# Altium schematic symbol library Seeed-OPL-Switch.SCHLIB: 25 symbols
Pins are listed as number, name and electrical type; pins without a type are passive.

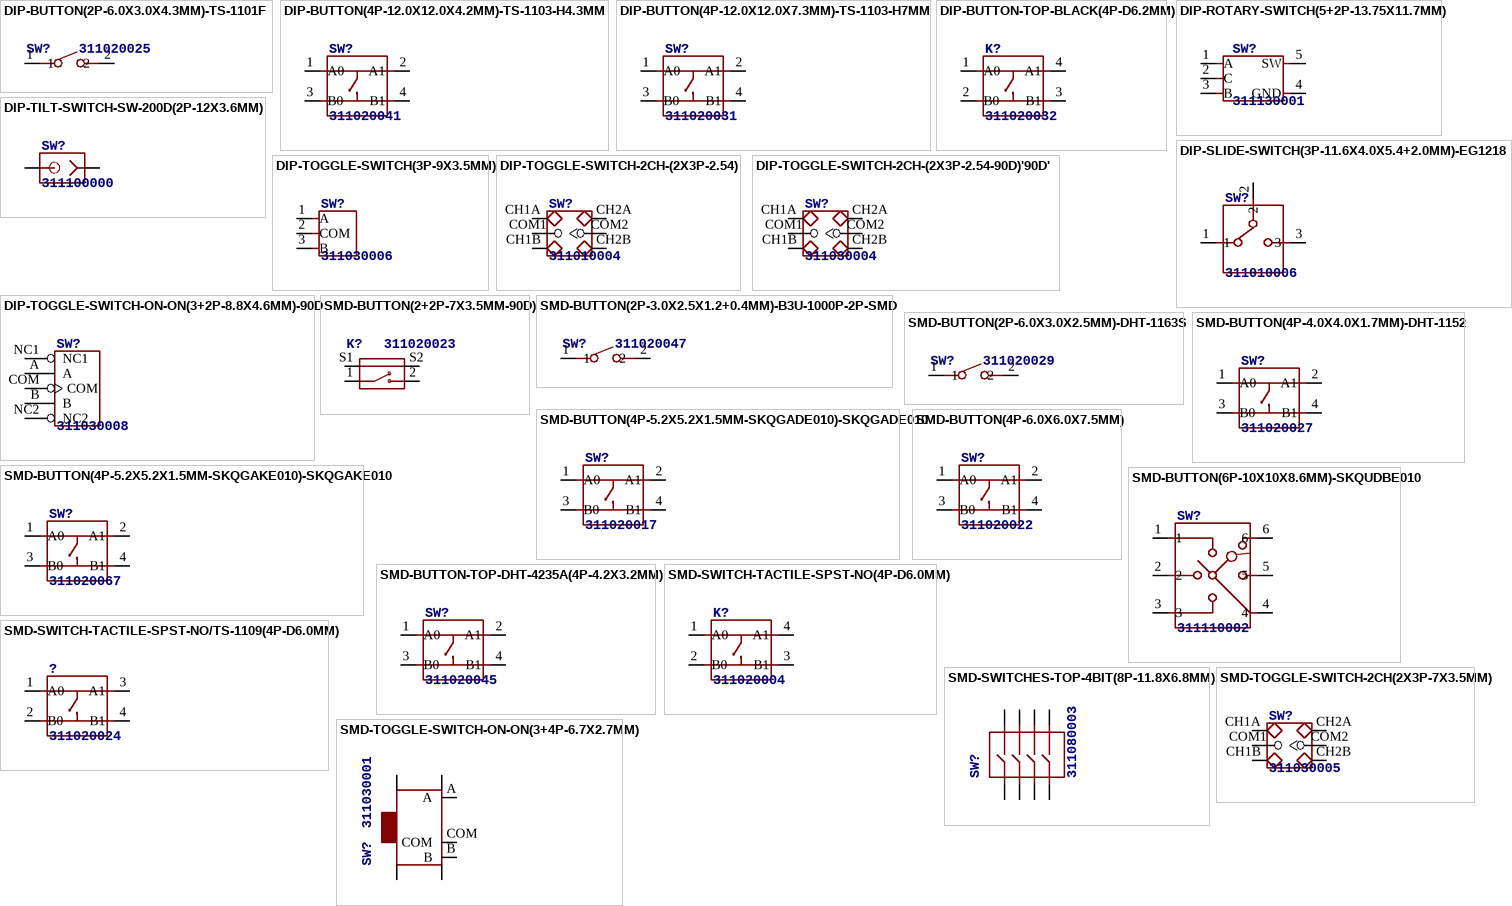
[diagram p0: symbols DIP-BUTTON(2P-6.0X3.0X4.3MM)-TS-1101F to SMD-TOGGLE-SWITCH-ON-ON(3+4P-6.7X2.7MM)]

## DIP-BUTTON(2P-6.0X3.0X4.3MM)-TS-1101F
designator SW?, comment 311020025
footprint SW2-5.0-6.0X3.0X4.3MM
pins: 1, 2

## DIP-BUTTON(4P-12.0X12.0X4.2MM)-TS-1103-H4.3MM
designator SW?, comment 311020041
footprint SW4-12.5-12X12X7.3MM
pins: 1 A0, 2 A1, 3 B0, 4 B1

## DIP-BUTTON(4P-12.0X12.0X7.3MM)-TS-1103-H7MM
designator SW?, comment 311020031
footprint SW4-12.5-12X12X7.3MM
pins: 1 A0, 2 A1, 3 B0, 4 B1

## DIP-BUTTON-TOP-BLACK(4P-D6.2MM)
designator K?, comment 311020032
MPN: TS-1109-7
footprint SW4-6.2X6.2X5.0MM
pins: 1 A0, 2 B0, 3 B1, 4 A1

## DIP-ROTARY-SWITCH(5+2P-13.75X11.7MM)
designator SW?, comment 311130001
MPN: Rotary-switch
footprint SW7-13.75X11.7X6.5MM
pins: 1 A, 2 C, 3 B, 4 GND, 5 SW

## DIP-SLIDE-SWITCH(3P-11.6X4.0X5.4+2.0MM)-EG1218
designator SW?, comment 311010006
footprint SW3-2.5-11.6X4.0X5.4+2.0MM
pins: 1, 2, 3

## DIP-TILT-SWITCH-SW-200D(2P-12X3.6MM)
designator SW?, comment 311100000
MPN: SW-200D
footprint SW2-12.7-12.0X3.6X3.6MM
pins: 1, 2

## DIP-TOGGLE-SWITCH(3P-9X3.5MM)
designator SW?, comment 311030006
footprint SW3-2.54-9.0X3.5X3.5+2.0MM
pins: 1 A, 2 COM, 3 B

## DIP-TOGGLE-SWITCH-2CH-(2X3P-2.54)
designator SW?, comment 311010004
MPN: MS-22D18
footprint SW6-2.54-9.0X3.5X3.2+2.0MM
pins: CH1A, CH1B, CH2A, CH2B, COM1, COM2

## DIP-TOGGLE-SWITCH-2CH-(2X3P-2.54-90D)'90D'
designator SW?, comment 311030004
footprint SW6-2.54-9.0X3.5X3.2MM-90D
pins: CH1A, CH1B, CH2A, CH2B, COM1, COM2

## DIP-TOGGLE-SWITCH-ON-ON(3+2P-8.8X4.6MM)-90D
designator SW?, comment 311030008
MPN: 3P-2.0-90D
footprint SW5-2.0-8.8X4.4X4.7MM-90D
pins: A, B, COM, NC1, NC2

## SMD-BUTTON(2+2P-7X3.5MM-90D)
designator K?, comment 311020023
MPN: TS-1188E
footprint SW4-SMD-7.0X3.5X3.5MM-90D
pins: 1, 2, S1, S2

## SMD-BUTTON(2P-3.0X2.5X1.2+0.4MM)-B3U-1000P-2P-SMD
designator SW?, comment 311020047
footprint SW2-2.6-3.0X2.5X1.2+0.4MM
pins: 1, 2

## SMD-BUTTON(2P-6.0X3.0X2.5MM)-DHT-1163S
designator SW?, comment 311020029
footprint SW2-4.0-6.0X3.0X2.5MM
pins: 1, 2

## SMD-BUTTON(4P-4.0X4.0X1.7MM)-DHT-1152
designator SW?, comment 311020027
footprint SW4-SMD-4.0X4.0X1.7MM
pins: 1 A0, 2 A1, 3 B0, 4 B1

## SMD-BUTTON(4P-5.2X5.2X1.5MM-SKQGADE010)-SKQGADE010
designator SW?, comment 311020017
footprint SW4-SMD-5.2X5.2X1.5MM
pins: 1 A0, 2 A1, 3 B0, 4 B1

## SMD-BUTTON(4P-5.2X5.2X1.5MM-SKQGAKE010)-SKQGAKE010
designator SW?, comment 311020067
footprint SW4-SMD-5.2X5.2X1.5MM
pins: 1 A0, 2 A1, 3 B0, 4 B1

## SMD-BUTTON(4P-6.0X6.0X7.5MM)
designator SW?, comment 311020022
footprint SW4-SMD-4.5-6.0X6.0X7.5MM
pins: 1 A0, 2 A1, 3 B0, 4 B1

## SMD-BUTTON(6P-10X10X8.6MM)-SKQUDBE010
designator SW?, comment 311110002
footprint SW6-3.25-10X10X8.6MM
pins: 1, 2, 3, 4, 5, 6

## SMD-BUTTON-TOP-DHT-4235A(4P-4.2X3.2MM)
designator SW?, comment 311020045
MPN: DHT-4235A
footprint SW4-SMD-4.2X3.2X2.5MM
pins: 1 A0, 2 A1, 3 B0, 4 B1

## SMD-SWITCH-TACTILE-SPST-NO(4P-D6.0MM)
designator K?, comment 311020004
MPN: DTSM-62K-S-V-T/R
footprint SW4-SMD-6.0X6.0X5.0MM
pins: 1 A0, 2 B0, 3 B1, 4 A1

## SMD-SWITCH-TACTILE-SPST-NO/TS-1109(4P-D6.0MM)
designator ?, comment 311020024
MPN: TS-1109
footprint SW4-SMD-6.0X6.0X5.0MM
pins: 1 A0, 2 B0, 3 A1, 4 B1

## SMD-SWITCHES-TOP-4BIT(8P-11.8X6.8MM)
designator SW?, comment 311080003
MPN: LSM7-629C
footprint SW8-SMD-11.8X6.8X3.3MM
pins: 1, 2, 3, 4, 5, 6, 7, 8

## SMD-TOGGLE-SWITCH-2CH(2X3P-7X3.5MM)
designator SW?, comment 311030005
footprint SW6-2.54-SMD-7.0X3.5X1.5MM
pins: CH1A, CH1B, CH2A, CH2B, COM1, COM2

## SMD-TOGGLE-SWITCH-ON-ON(3+4P-6.7X2.7MM)
designator SW?, comment 311030001
footprint SW7-SMD-L6.7X2.7X3.2MM
pins: A, B, COM, SS1, SS2, SS3, SS4